# Altium schematic symbol library LED Indication - Discrete.SchLib: 3 symbols
Pins are listed as number, name and electrical type; pins without a type are passive.

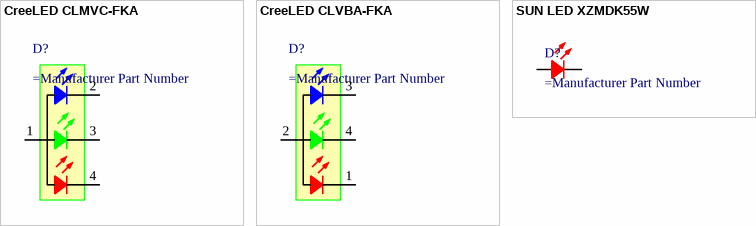
[diagram p0: symbols CreeLED CLMVC-FKA to SUN LED XZMDK55W]

## CreeLED CLMVC-FKA
designator D?
footprint CREELED CLMVC-FKA
pins: 1 A, 2 BC, 3 GC, 4 RC

## CreeLED CLVBA-FKA
designator D?
footprint CREELED CLVBA-FKA
pins: 1 RC, 2 A, 3 BC, 4 GC

## SUN LED XZMDK55W
designator D?
footprint LED XZMDK55W-3RT
pins: 1 A, 2 C